# Altium schematic symbol library amplifier.SchLib: 11 symbols
Pins are listed as number, name and electrical type; pins without a type are passive.

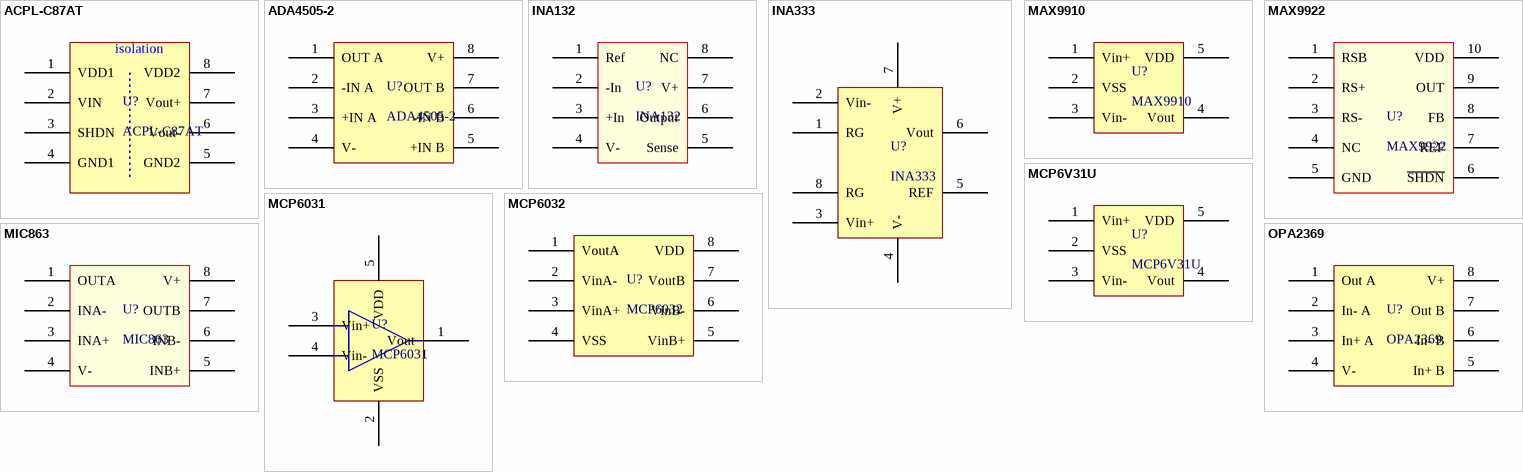
[diagram p0: symbols ACPL-C87AT to OPA2369]

## ACPL-C87AT
designator U?
Automotive High Precision DC Voltage Isolation Sensor; Supplier 1: Mouser; Supplier Part Number 1: 630-ACPL-C87AT-000E
footprint SO-8_Stretched (SOIC, 8-Leads, Body 5.84x6.80mm, Pitch 1.27mm, IPC Medium Density)
pins: 1 VDD1, 2 VIN, 3 SHDN, 4 GND1, 5 GND2, 6 Vout-, 7 Vout+, 8 VDD2
text: isolation

## ADA4505-2
designator U?
10 uA, Rail-to-Rail I/O, Zero Input  Crossover Distortion Amplifiers; Supplier 1: Digi-Key; Supplier Part Number 1: ADA4505-2ARMZ-RLCT-ND
footprint MSOP-8 (TSOP, 8-Leads, Body 3.00x3.00mm, Pitch 0.65mm, IPC Medium Density)
pins: 1 OUT A, 2 -IN A, 3 +IN A, 4 V-, 5 +IN B, 6 -IN B, 7 OUT B, 8 V+

## INA132
designator U?
Low Power, Single-Supply  DIFFERENCE AMPLIFIER; Supplier 1: Digi-Key; Supplier Part Number 1: INA132UA-ND
footprint SOIC-8 (SOIC, 8-Leads, Body 4.90x3.90mm, Pitch 1.27mm, IPC Medium Density)
pins: 1 Ref, 2 -In, 3 +In, 4 V-, 5 Sense, 6 Output, 7 V+, 8 NC

## INA333
designator U?
Micro-Power (50µA), Zerø-Drift, Rail-to-Rail Out  Instrumentation Amplifier; Supplier 1: Digi-Key; Supplier Part Number 1: 296-23564-1-ND
footprint MSOP-8 (TSOP, 8-Leads, Body 3.00x3.00mm, Pitch 0.65mm, IPC Medium Density)
pins: 1 RG, 2 Vin-, 3 Vin+, 4 V-, 5 REF, 6 Vout, 7 V+, 8 RG

## MAX9910
designator U?
200kHz, 4µA, Rail-to-Rail  I/O Op Amps with Shutdown; Supplier 1: Digi-Key; Supplier Part Number 1: MAX9910EXK+TCT-ND
footprint SC70-5
pins: 1 Vin+, 2 VSS, 3 Vin-, 4 Vout, 5 VDD

## MAX9922
designator U?
ultra-precision, high-side current-sense amplifier; Supplier 1: Digi-Key; Supplier Part Number 1: MAX9923HEUB+-ND
footprint 10umax (TSSOP, 10-Leads, Body 3.00x3.00mm, Pitch 0.50mm, IPC Medium Density)
pins: 1 RSB, 2 RS+, 3 RS-, 4 NC, 5 GND, 6 ~{SHDN}, 7 REF, 8 FB, 9 OUT, 10 VDD

## MCP6V31U
designator U?
23 µA, 300 kHz Zero-Drift Op Amps; Supplier 1: Digi-Key; Supplier Part Number 1: MCP6V31UT-E/LTCT-ND
footprint SC70-5
pins: 1 Vin+, 2 VSS, 3 Vin-, 4 Vout, 5 VDD

## MCP6031
designator U?
0.9 µA, High Precision Op Amps; Supplier 1: Digi-Key; Supplier Part Number 1: MCP6031T-E/OTCT-ND
footprint SOT23-5 (SOT23, 5-Leads, Body 2.90x2.45mm, Pitch 0.95mm, IPC Medium Density)
pins: 1 Vout, 2 VSS, 3 Vin+, 4 Vin-, 5 VDD

## MCP6032
designator U?
0.9 µA, High Precision Op Amps; Supplier 1: Digi-Key; Supplier Part Number 1: MCP6032-E/MS-ND
footprint MSOP-8 (TSOP, 8-Leads, Body 3.00x3.00mm, Pitch 0.65mm, IPC Medium Density)
pins: 1 VoutA, 2 VinA-, 3 VinA+, 4 VSS, 5 VinB+, 6 VinB-, 7 VoutB, 8 VDD

## MIC863
designator U?
Dual Ultra Low Power Op Amp in SOT23-8; Supplier 1: Digi-Key; Supplier Part Number 1: 576-2934-1-ND
footprint TSOP65P280X145-8N (TSOP, 8-Leads, Body 2.90x1.60mm, Pitch 0.65mm, IPC Medium Density)
footprint TSOP-8 (TSOP, 8-Leads, Body 2.90x1.60mm, Pitch 0.65mm, IPC Medium Density)
pins: 1 OUTA, 2 INA-, 3 INA+, 4 V-, 5 INB+, 6 INB-, 7 OUTB, 8 V+

## OPA2369
designator U?
1.8V, 700nA, Zerø-Crossover  RAIL-TO-RAIL I/O OPERATIONAL AMPLIFIER; Supplier 1: Digi-Key; Supplier Part Number 1: 296-22671-1-ND
footprint SOT23-8
pins: 1 Out A, 2 In- A, 3 In+ A, 4 V-, 5 In+ B, 6 In- B, 7 Out B, 8 V+